# Altium schematic symbol library Schematic_IC_Special.SchLib: 1 symbol
Pins are listed as number, name and electrical type; pins without a type are passive.

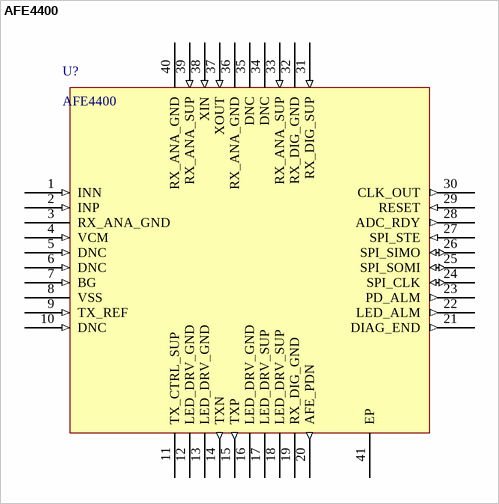
[diagram p0: symbol AFE4400]

## AFE4400
designator U?
Integrated Analog Front End (AFE) for Heart-Rate Monitors and Low-Cost Pulse Oximeters
pins: 1 INN (in), 2 INP (in), 3 RX_ANA_GND, 4 VCM (in), 5 DNC (in), 6 DNC (in), 7 BG (in), 8 VSS, 9 TX_REF (in), 10 DNC (in), 11 TX_CTRL_SUP, 12 LED_DRV_GND, 13 LED_DRV_GND, 14 TXN (out), 15 TXP (out), 16 LED_DRV_GND, 17 LED_DRV_SUP, 18 LED_DRV_SUP, 19 RX_DIG_GND, 20 AFE_PDN (out), 21 DIAG_END (out), 22 LED_ALM (out), 23 PD_ALM (out), 24 SPI_CLK (io), 25 SPI_SOMI (io), 26 SPI_SIMO (io), 27 SPI_STE (in), 28 ADC_RDY (out), 29 RESET (in), 30 CLK_OUT (out), 31 RX_DIG_SUP (in), 32 RX_DIG_GND, 33 RX_ANA_SUP (in), 34 DNC, 35 DNC, 36 RX_ANA_GND, 37 XOUT (in), 38 XIN (in), 39 RX_ANA_SUP (in), 40 RX_ANA_GND, 41 EP "Thermal Pad"